# Altium schematic symbol library MPSA56.SchLib: 1 symbol
Pins are listed as number, name and electrical type; pins without a type are passive.

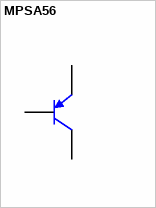
[diagram p0: symbol MPSA56]

## MPSA56
designator T?, comment LED
Manufacturer_id: 1; idFuse: 3; Name: 3568 Mini Fuse Holder; Drawer_id: 1
footprint 3568-MiniFuseHolder
pins: 1 B, 2 E, 3 C